# Altium footprint library Connector_Wire.PcbLib: 290 footprints (part 14 of 19)
Each footprint in its own frame and in the unit in brackets; x right, y up, seen from the top. Pads: shape width x height; smd on the part's side, far side on the other; paste and mask are expansions set on the pad; w line width, h text height; cw(c..) or ccw(c..) is an arc to the next point about the centre after c.
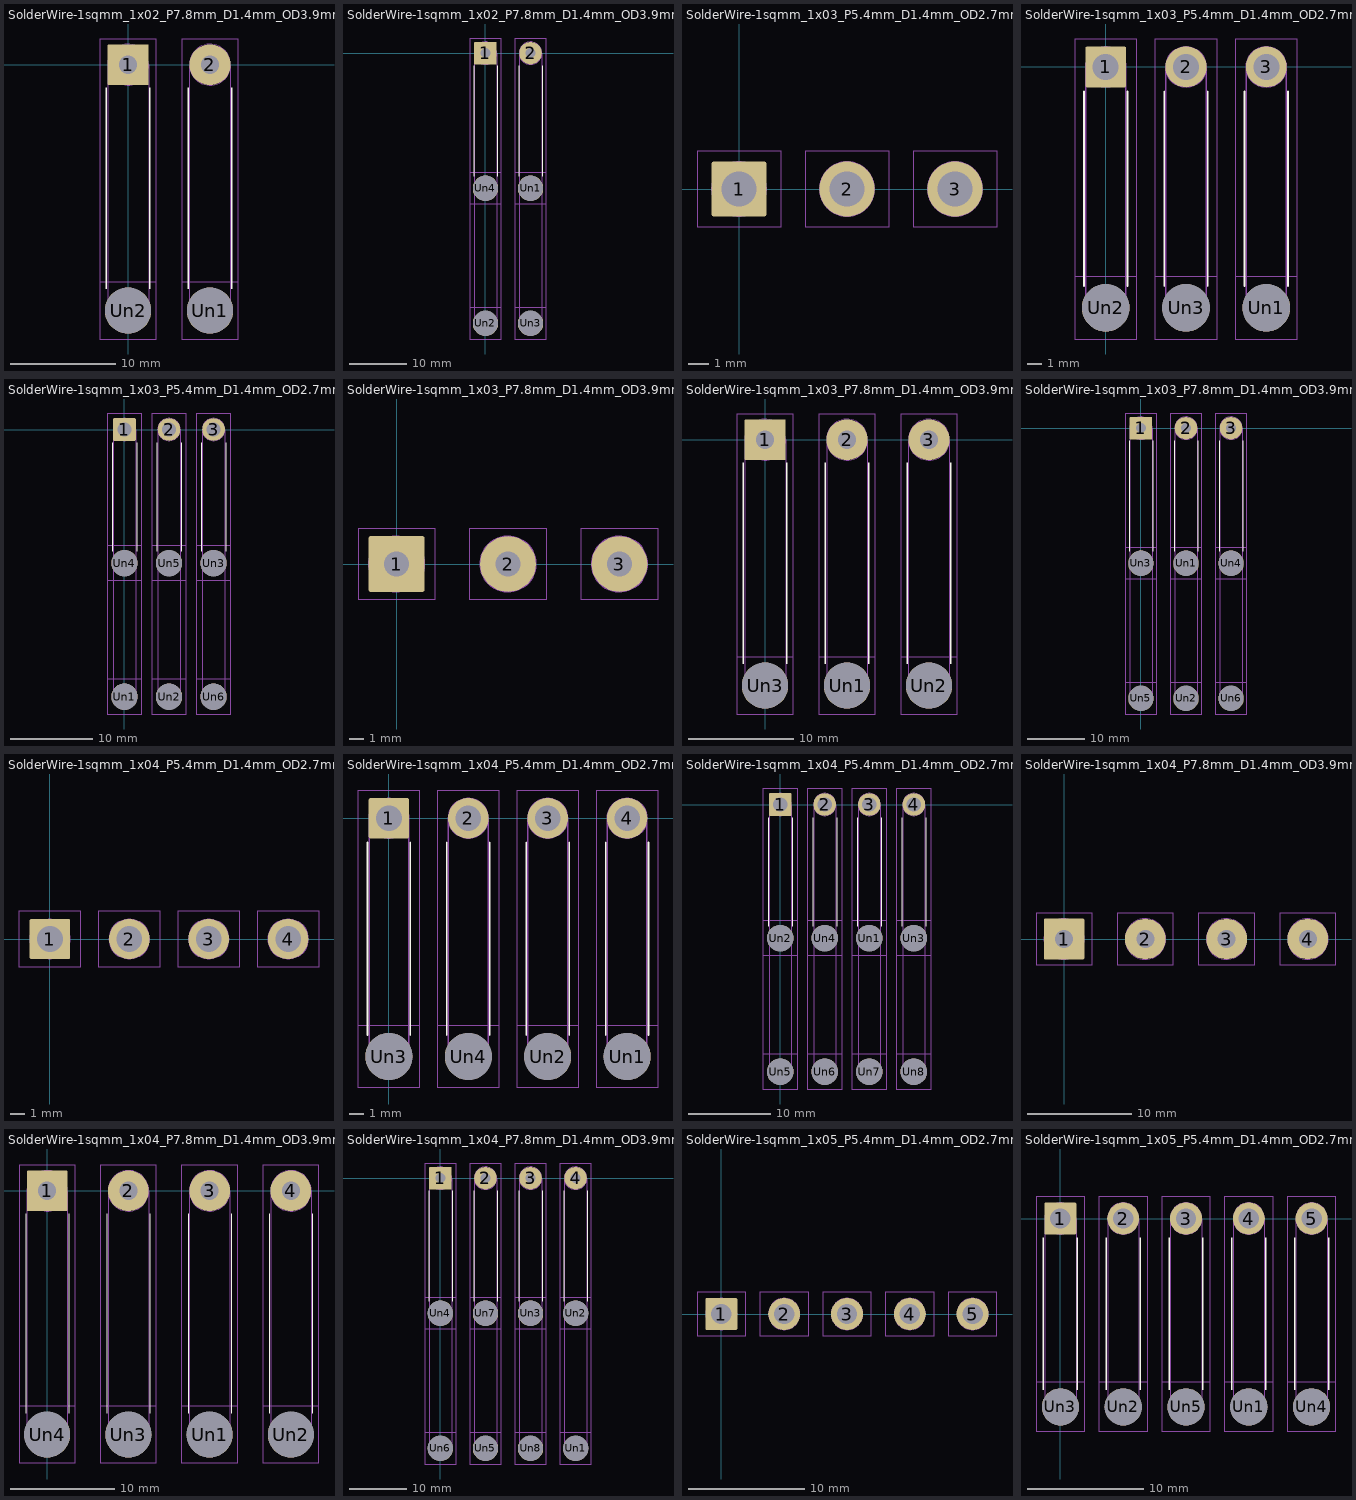
[diagram p13: the footprints below, top view; thin cyan lines are the x and y axes]

## SolderWire-1sqmm_1x02_P7.8mm_D1.4mm_OD3.9mm_Relief [mm]
pads (4):
  rrect6% 3.9x3.9 hole 1.75: 1(0,0)
  round 3.9 hole 1.75: 2(7.8,0)
  round 4.4 hole 4.4: Un1(7.8,-23.4) Un2(0,-23.4)
F.SilkS:
  lines w0.12: -2.06,-21.34 -2.06,-2.21 ; 2.06,-21.34 2.06,-2.21 ; 5.74,-21.34 5.74,-2.21 ; 9.86,-21.34 9.86,-2.21
B.CrtYd:
  lines w0.05: -2.7,-26.1 2.7,-26.1 2.7,-20.7 -2.7,-20.7 -2.7,-26.1 ; 5.1,-26.1 5.1,-20.7 10.5,-20.7 10.5,-26.1 5.1,-26.1
F.CrtYd:
  lines w0.05: -2.7,-26.1 2.7,-26.1 2.7,2.45 -2.7,2.45 -2.7,-26.1 ; 5.1,-26.1 5.1,2.45 10.5,2.45 10.5,-26.1 5.1,-26.1
F.Fab:
  circle w0.1: c0,0 r1.95
  circle w0.1: c0,-23.4 r1.95
  circle w0.1: c7.8,-23.4 r1.95
  circle w0.1: c7.8,0 r1.95
  lines w0.1: -1.95,-23.4 -1.95,0 ; 1.95,-23.4 1.95,0 ; 5.85,-23.4 5.85,0 ; 9.75,-23.4 9.75,0
  text "'.Designator'" at 4.74,-15.747 h1

## SolderWire-1sqmm_1x02_P7.8mm_D1.4mm_OD3.9mm_Relief2x [mm]
pads (6):
  rrect6% 3.9x3.9 hole 1.75: 1(0,0)
  round 3.9 hole 1.75: 2(7.8,0)
  round 4.4 hole 4.4: Un1(7.8,-23.4) Un2(0,-46.8) Un3(7.8,-46.8) Un4(0,-23.4)
F.SilkS:
  lines w0.12: -2.06,-21.34 -2.06,-2.21 ; 2.06,-21.34 2.06,-2.21 ; 5.74,-21.34 5.74,-2.21 ; 9.86,-21.34 9.86,-2.21
B.SilkS:
  lines w0.12: -2.06,-44.74 -2.06,-25.46 ; 2.06,-44.74 2.06,-25.46 ; 5.74,-44.74 5.74,-25.46 ; 9.86,-44.74 9.86,-25.46
B.CrtYd:
  lines w0.05: -2.7,-49.5 2.7,-49.5 2.7,-20.7 -2.7,-20.7 -2.7,-49.5 ; 5.1,-49.5 5.1,-20.7 10.5,-20.7 10.5,-49.5 5.1,-49.5
F.CrtYd:
  lines w0.05: -2.7,-49.5 2.7,-49.5 2.7,-44.1 -2.7,-44.1 -2.7,-49.5 ; -2.7,-26.1 2.7,-26.1 2.7,2.45 -2.7,2.45 -2.7,-26.1 ; 5.1,-49.5 5.1,-44.1 10.5,-44.1 10.5,-49.5 5.1,-49.5 ; 5.1,-26.1 10.5,-26.1 10.5,2.45 5.1,2.45 5.1,-26.1
B.Fab:
  circle w0.1: c0,-46.8 r1.95
  circle w0.1: c0,-23.4 r1.95
  circle w0.1: c7.8,-46.8 r1.95
  circle w0.1: c7.8,-23.4 r1.95
  lines w0.1: -1.95,-46.8 -1.95,-23.4 ; 1.95,-46.8 1.95,-23.4 ; 5.85,-46.8 5.85,-23.4 ; 9.75,-46.8 9.75,-23.4
F.Fab:
  circle w0.1: c0,0 r1.95
  circle w0.1: c7.8,-46.8 r1.95
  circle w0.1: c7.8,-23.4 r1.95
  circle w0.1: c0,-46.8 r1.95
  circle w0.1: c0,-23.4 r1.95
  circle w0.1: c7.8,0 r1.95
  lines w0.1: -1.95,-23.4 -1.95,0 ; 1.95,-23.4 1.95,0 ; 5.85,-23.4 5.85,0 ; 9.75,-23.4 9.75,0
  text "'.Designator'" at 4.74,-15.747 h1

## SolderWire-1sqmm_1x03_P5.4mm_D1.4mm_OD2.7mm [mm]
pads (3):
  rrect9% 2.75x2.75 hole 1.75: 1(0,0)
  round 2.75 hole 1.75: 2(5.4,0) 3(10.8,0)
F.CrtYd:
  lines w0.05: -2.1,-1.88 2.1,-1.88 2.1,1.88 -2.1,1.88 -2.1,-1.88 ; 3.3,-1.88 7.5,-1.88 7.5,1.88 3.3,1.88 3.3,-1.88 ; 8.7,-1.88 8.7,1.88 12.9,1.88 12.9,-1.88 8.7,-1.88
F.Fab:
  circle w0.1: c5.4,0 r1.35
  circle w0.1: c0,0 r1.35
  circle w0.1: c10.8,0 r1.35
  text "'.Designator'" at 5.969,-2.75 h0.68

## SolderWire-1sqmm_1x03_P5.4mm_D1.4mm_OD2.7mm_Relief [mm]
pads (6):
  rrect9% 2.75x2.75 hole 1.75: 1(0,0)
  round 2.75 hole 1.75: 2(5.4,0) 3(10.8,0)
  round 3.2 hole 3.2: Un1(10.8,-16.2) Un2(0,-16.2) Un3(5.4,-16.2)
F.SilkS:
  lines w0.12: -1.46,-14.74 -1.46,-1.635 ; 1.46,-14.74 1.46,-1.635 ; 3.94,-14.74 3.94,-1.635 ; 6.86,-14.74 6.86,-1.635 ; 9.34,-14.74 9.34,-1.635 ; 12.26,-14.74 12.26,-1.635
B.CrtYd:
  lines w0.05: -2.1,-18.3 -2.1,-14.1 2.1,-14.1 2.1,-18.3 -2.1,-18.3 ; 3.3,-18.3 7.5,-18.3 7.5,-14.1 3.3,-14.1 3.3,-18.3 ; 8.7,-18.3 8.7,-14.1 12.9,-14.1 12.9,-18.3 8.7,-18.3
F.CrtYd:
  lines w0.05: -2.1,-18.3 -2.1,1.88 2.1,1.88 2.1,-18.3 -2.1,-18.3 ; 3.3,-18.3 7.5,-18.3 7.5,1.88 3.3,1.88 3.3,-18.3 ; 8.7,-18.3 8.7,1.88 12.9,1.88 12.9,-18.3 8.7,-18.3
F.Fab:
  circle w0.1: c10.8,0 r1.35
  circle w0.1: c0,-16.2 r1.35
  circle w0.1: c5.4,0 r1.35
  circle w0.1: c0,0 r1.35
  circle w0.1: c5.4,-16.2 r1.35
  circle w0.1: c10.8,-16.2 r1.35
  lines w0.1: -1.35,-16.2 -1.35,0 ; 1.35,-16.2 1.35,0 ; 4.05,-16.2 4.05,0 ; 6.75,-16.2 6.75,0 ; 9.45,-16.2 9.45,0 ; 12.15,-16.2 12.15,0
  text "'.Designator'" at 6.24,-12.147 h1

## SolderWire-1sqmm_1x03_P5.4mm_D1.4mm_OD2.7mm_Relief2x [mm]
pads (9):
  rrect9% 2.75x2.75 hole 1.75: 1(0,0)
  round 2.75 hole 1.75: 2(5.4,0) 3(10.8,0)
  round 3.2 hole 3.2: Un1(0,-32.4) Un2(5.4,-32.4) Un3(10.8,-16.2) Un4(0,-16.2) Un5(5.4,-16.2) Un6(10.8,-32.4)
F.SilkS:
  lines w0.12: -1.46,-14.74 -1.46,-1.635 ; 1.46,-14.74 1.46,-1.635 ; 3.94,-14.74 3.94,-1.635 ; 6.86,-14.74 6.86,-1.635 ; 9.34,-14.74 9.34,-1.635 ; 12.26,-14.74 12.26,-1.635
B.SilkS:
  lines w0.12: -1.46,-30.94 -1.46,-17.66 ; 1.46,-30.94 1.46,-17.66 ; 3.94,-30.94 3.94,-17.66 ; 6.86,-30.94 6.86,-17.66 ; 9.34,-30.94 9.34,-17.66 ; 12.26,-30.94 12.26,-17.66
B.CrtYd:
  lines w0.05: -2.1,-34.5 -2.1,-14.1 2.1,-14.1 2.1,-34.5 -2.1,-34.5 ; 3.3,-34.5 7.5,-34.5 7.5,-14.1 3.3,-14.1 3.3,-34.5 ; 8.7,-34.5 12.9,-34.5 12.9,-14.1 8.7,-14.1 8.7,-34.5
F.CrtYd:
  lines w0.05: -2.1,-34.5 2.1,-34.5 2.1,-30.3 -2.1,-30.3 -2.1,-34.5 ; -2.1,-18.3 2.1,-18.3 2.1,1.88 -2.1,1.88 -2.1,-18.3 ; 3.3,-34.5 3.3,-30.3 7.5,-30.3 7.5,-34.5 3.3,-34.5 ; 3.3,-18.3 3.3,1.88 7.5,1.88 7.5,-18.3 3.3,-18.3 ; 8.7,-34.5 12.9,-34.5 12.9,-30.3 8.7,-30.3 8.7,-34.5 ; 8.7,-18.3 8.7,1.88 12.9,1.88 12.9,-18.3 8.7,-18.3
B.Fab:
  circle w0.1: c0,-16.2 r1.35
  circle w0.1: c10.8,-16.2 r1.35
  circle w0.1: c10.8,-32.4 r1.35
  circle w0.1: c5.4,-16.2 r1.35
  circle w0.1: c0,-32.4 r1.35
  circle w0.1: c5.4,-32.4 r1.35
  lines w0.1: -1.35,-32.4 -1.35,-16.2 ; 1.35,-32.4 1.35,-16.2 ; 4.05,-32.4 4.05,-16.2 ; 6.75,-32.4 6.75,-16.2 ; 9.45,-32.4 9.45,-16.2 ; 12.15,-32.4 12.15,-16.2
F.Fab:
  circle w0.1: c10.8,0 r1.35
  circle w0.1: c10.8,-32.4 r1.35
  circle w0.1: c0,-32.4 r1.35
  circle w0.1: c10.8,-16.2 r1.35
  circle w0.1: c0,-16.2 r1.35
  circle w0.1: c5.4,-32.4 r1.35
  circle w0.1: c5.4,0 r1.35
  circle w0.1: c0,0 r1.35
  circle w0.1: c5.4,-16.2 r1.35
  lines w0.1: -1.35,-16.2 -1.35,0 ; 1.35,-16.2 1.35,0 ; 4.05,-16.2 4.05,0 ; 6.75,-16.2 6.75,0 ; 9.45,-16.2 9.45,0 ; 12.15,-16.2 12.15,0
  text "'.Designator'" at 6.24,-12.147 h1

## SolderWire-1sqmm_1x03_P7.8mm_D1.4mm_OD3.9mm [mm]
pads (3):
  rrect6% 3.9x3.9 hole 1.75: 1(0,0)
  round 3.9 hole 1.75: 2(7.8,0) 3(15.6,0)
F.CrtYd:
  lines w0.05: -2.7,-2.45 -2.7,2.45 2.7,2.45 2.7,-2.45 -2.7,-2.45 ; 5.1,-2.45 5.1,2.45 10.5,2.45 10.5,-2.45 5.1,-2.45 ; 12.9,-2.45 12.9,2.45 18.3,2.45 18.3,-2.45 12.9,-2.45
F.Fab:
  circle w0.1: c0,0 r1.95
  circle w0.1: c15.6,0 r1.95
  circle w0.1: c7.8,0 r1.95
  text "'.Designator'" at 3.831,-0.827 h0.98

## SolderWire-1sqmm_1x03_P7.8mm_D1.4mm_OD3.9mm_Relief [mm]
pads (6):
  rrect6% 3.9x3.9 hole 1.75: 1(0,0)
  round 3.9 hole 1.75: 2(7.8,0) 3(15.6,0)
  round 4.4 hole 4.4: Un1(7.8,-23.4) Un2(15.6,-23.4) Un3(0,-23.4)
F.SilkS:
  lines w0.12: -2.06,-21.34 -2.06,-2.21 ; 2.06,-21.34 2.06,-2.21 ; 5.74,-21.34 5.74,-2.21 ; 9.86,-21.34 9.86,-2.21 ; 13.54,-21.34 13.54,-2.21 ; 17.66,-21.34 17.66,-2.21
B.CrtYd:
  lines w0.05: -2.7,-26.1 2.7,-26.1 2.7,-20.7 -2.7,-20.7 -2.7,-26.1 ; 5.1,-26.1 10.5,-26.1 10.5,-20.7 5.1,-20.7 5.1,-26.1 ; 12.9,-26.1 18.3,-26.1 18.3,-20.7 12.9,-20.7 12.9,-26.1
F.CrtYd:
  lines w0.05: -2.7,-26.1 2.7,-26.1 2.7,2.45 -2.7,2.45 -2.7,-26.1 ; 5.1,-26.1 10.5,-26.1 10.5,2.45 5.1,2.45 5.1,-26.1 ; 12.9,-26.1 18.3,-26.1 18.3,2.45 12.9,2.45 12.9,-26.1
F.Fab:
  circle w0.1: c15.6,0 r1.95
  circle w0.1: c0,0 r1.95
  circle w0.1: c15.6,-23.4 r1.95
  circle w0.1: c0,-23.4 r1.95
  circle w0.1: c7.8,-23.4 r1.95
  circle w0.1: c7.8,0 r1.95
  lines w0.1: -1.95,-23.4 -1.95,0 ; 1.95,-23.4 1.95,0 ; 5.85,-23.4 5.85,0 ; 9.75,-23.4 9.75,0 ; 13.65,-23.4 13.65,0 ; 17.55,-23.4 17.55,0
  text "'.Designator'" at 8.64,-15.747 h1

## SolderWire-1sqmm_1x03_P7.8mm_D1.4mm_OD3.9mm_Relief2x [mm]
pads (9):
  rrect6% 3.9x3.9 hole 1.75: 1(0,0)
  round 3.9 hole 1.75: 2(7.8,0) 3(15.6,0)
  round 4.4 hole 4.4: Un1(7.8,-23.4) Un2(7.8,-46.8) Un3(0,-23.4) Un4(15.6,-23.4) Un5(0,-46.8) Un6(15.6,-46.8)
F.SilkS:
  lines w0.12: -2.06,-21.34 -2.06,-2.21 ; 2.06,-21.34 2.06,-2.21 ; 5.74,-21.34 5.74,-2.21 ; 9.86,-21.34 9.86,-2.21 ; 13.54,-21.34 13.54,-2.21 ; 17.66,-21.34 17.66,-2.21
B.SilkS:
  lines w0.12: -2.06,-44.74 -2.06,-25.46 ; 2.06,-44.74 2.06,-25.46 ; 5.74,-44.74 5.74,-25.46 ; 9.86,-44.74 9.86,-25.46 ; 13.54,-44.74 13.54,-25.46 ; 17.66,-44.74 17.66,-25.46
B.CrtYd:
  lines w0.05: -2.7,-49.5 2.7,-49.5 2.7,-20.7 -2.7,-20.7 -2.7,-49.5 ; 5.1,-49.5 10.5,-49.5 10.5,-20.7 5.1,-20.7 5.1,-49.5 ; 12.9,-49.5 18.3,-49.5 18.3,-20.7 12.9,-20.7 12.9,-49.5
F.CrtYd:
  lines w0.05: -2.7,-49.5 2.7,-49.5 2.7,-44.1 -2.7,-44.1 -2.7,-49.5 ; -2.7,-26.1 2.7,-26.1 2.7,2.45 -2.7,2.45 -2.7,-26.1 ; 5.1,-49.5 5.1,-44.1 10.5,-44.1 10.5,-49.5 5.1,-49.5 ; 5.1,-26.1 5.1,2.45 10.5,2.45 10.5,-26.1 5.1,-26.1 ; 12.9,-49.5 18.3,-49.5 18.3,-44.1 12.9,-44.1 12.9,-49.5 ; 12.9,-26.1 12.9,2.45 18.3,2.45 18.3,-26.1 12.9,-26.1
B.Fab:
  circle w0.1: c15.6,-46.8 r1.95
  circle w0.1: c0,-46.8 r1.95
  circle w0.1: c15.6,-23.4 r1.95
  circle w0.1: c0,-23.4 r1.95
  circle w0.1: c7.8,-23.4 r1.95
  circle w0.1: c7.8,-46.8 r1.95
  lines w0.1: -1.95,-46.8 -1.95,-23.4 ; 1.95,-46.8 1.95,-23.4 ; 5.85,-46.8 5.85,-23.4 ; 9.75,-46.8 9.75,-23.4 ; 13.65,-46.8 13.65,-23.4 ; 17.55,-46.8 17.55,-23.4
F.Fab:
  circle w0.1: c7.8,0 r1.95
  circle w0.1: c15.6,0 r1.95
  circle w0.1: c0,0 r1.95
  circle w0.1: c0,-46.8 r1.95
  circle w0.1: c0,-23.4 r1.95
  circle w0.1: c7.8,-46.8 r1.95
  circle w0.1: c15.6,-23.4 r1.95
  circle w0.1: c7.8,-23.4 r1.95
  circle w0.1: c15.6,-46.8 r1.95
  lines w0.1: -1.95,-23.4 -1.95,0 ; 1.95,-23.4 1.95,0 ; 5.85,-23.4 5.85,0 ; 9.75,-23.4 9.75,0 ; 13.65,-23.4 13.65,0 ; 17.55,-23.4 17.55,0
  text "'.Designator'" at 8.64,-15.747 h1

## SolderWire-1sqmm_1x04_P5.4mm_D1.4mm_OD2.7mm [mm]
pads (4):
  rrect9% 2.75x2.75 hole 1.75: 1(0,0)
  round 2.75 hole 1.75: 2(5.4,0) 3(10.8,0) 4(16.2,0)
F.CrtYd:
  lines w0.05: -2.1,-1.88 -2.1,1.88 2.1,1.88 2.1,-1.88 -2.1,-1.88 ; 3.3,-1.88 7.5,-1.88 7.5,1.88 3.3,1.88 3.3,-1.88 ; 8.7,-1.88 8.7,1.88 12.9,1.88 12.9,-1.88 8.7,-1.88 ; 14.1,-1.88 18.3,-1.88 18.3,1.88 14.1,1.88 14.1,-1.88
F.Fab:
  circle w0.1: c0,0 r1.35
  circle w0.1: c5.4,0 r1.35
  circle w0.1: c16.2,0 r1.35
  circle w0.1: c10.8,0 r1.35
  text "'.Designator'" at 8.889,-3.803 h0.94

## SolderWire-1sqmm_1x04_P5.4mm_D1.4mm_OD2.7mm_Relief [mm]
pads (8):
  rrect9% 2.75x2.75 hole 1.75: 1(0,0)
  round 2.75 hole 1.75: 2(5.4,0) 3(10.8,0) 4(16.2,0)
  round 3.2 hole 3.2: Un1(16.2,-16.2) Un2(10.8,-16.2) Un3(0,-16.2) Un4(5.4,-16.2)
F.SilkS:
  lines w0.12: -1.46,-14.74 -1.46,-1.635 ; 1.46,-14.74 1.46,-1.635 ; 3.94,-14.74 3.94,-1.635 ; 6.86,-14.74 6.86,-1.635 ; 9.34,-14.74 9.34,-1.635 ; 12.26,-14.74 12.26,-1.635 ; 14.74,-14.74 14.74,-1.635 ; 17.66,-14.74 17.66,-1.635
B.CrtYd:
  lines w0.05: -2.1,-18.3 2.1,-18.3 2.1,-14.1 -2.1,-14.1 -2.1,-18.3 ; 3.3,-18.3 3.3,-14.1 7.5,-14.1 7.5,-18.3 3.3,-18.3 ; 8.7,-18.3 8.7,-14.1 12.9,-14.1 12.9,-18.3 8.7,-18.3 ; 14.1,-18.3 18.3,-18.3 18.3,-14.1 14.1,-14.1 14.1,-18.3
F.CrtYd:
  lines w0.05: -2.1,-18.3 2.1,-18.3 2.1,1.88 -2.1,1.88 -2.1,-18.3 ; 3.3,-18.3 3.3,1.88 7.5,1.88 7.5,-18.3 3.3,-18.3 ; 8.7,-18.3 8.7,1.88 12.9,1.88 12.9,-18.3 8.7,-18.3 ; 14.1,-18.3 18.3,-18.3 18.3,1.88 14.1,1.88 14.1,-18.3
F.Fab:
  circle w0.1: c0,0 r1.35
  circle w0.1: c10.8,-16.2 r1.35
  circle w0.1: c10.8,0 r1.35
  circle w0.1: c5.4,0 r1.35
  circle w0.1: c16.2,0 r1.35
  circle w0.1: c5.4,-16.2 r1.35
  circle w0.1: c0,-16.2 r1.35
  circle w0.1: c16.2,-16.2 r1.35
  lines w0.1: -1.35,-16.2 -1.35,0 ; 1.35,-16.2 1.35,0 ; 4.05,-16.2 4.05,0 ; 6.75,-16.2 6.75,0 ; 9.45,-16.2 9.45,0 ; 12.15,-16.2 12.15,0 ; 14.85,-16.2 14.85,0 ; 17.55,-16.2 17.55,0
  text "'.Designator'" at 8.94,-12.147 h1

## SolderWire-1sqmm_1x04_P5.4mm_D1.4mm_OD2.7mm_Relief2x [mm]
pads (12):
  rrect9% 2.75x2.75 hole 1.75: 1(0,0)
  round 2.75 hole 1.75: 2(5.4,0) 3(10.8,0) 4(16.2,0)
  round 3.2 hole 3.2: Un1(10.8,-16.2) Un2(0,-16.2) Un3(16.2,-16.2) Un4(5.4,-16.2) Un5(0,-32.4) Un6(5.4,-32.4) Un7(10.8,-32.4) Un8(16.2,-32.4)
F.SilkS:
  lines w0.12: -1.46,-14.74 -1.46,-1.635 ; 1.46,-14.74 1.46,-1.635 ; 3.94,-14.74 3.94,-1.635 ; 6.86,-14.74 6.86,-1.635 ; 9.34,-14.74 9.34,-1.635 ; 12.26,-14.74 12.26,-1.635 ; 14.74,-14.74 14.74,-1.635 ; 17.66,-14.74 17.66,-1.635
B.SilkS:
  lines w0.12: -1.46,-30.94 -1.46,-17.66 ; 1.46,-30.94 1.46,-17.66 ; 3.94,-30.94 3.94,-17.66 ; 6.86,-30.94 6.86,-17.66 ; 9.34,-30.94 9.34,-17.66 ; 12.26,-30.94 12.26,-17.66 ; 14.74,-30.94 14.74,-17.66 ; 17.66,-30.94 17.66,-17.66
B.CrtYd:
  lines w0.05: -2.1,-34.5 2.1,-34.5 2.1,-14.1 -2.1,-14.1 -2.1,-34.5 ; 3.3,-34.5 3.3,-14.1 7.5,-14.1 7.5,-34.5 3.3,-34.5 ; 8.7,-34.5 8.7,-14.1 12.9,-14.1 12.9,-34.5 8.7,-34.5 ; 14.1,-34.5 14.1,-14.1 18.3,-14.1 18.3,-34.5 14.1,-34.5
F.CrtYd:
  lines w0.05: -2.1,-34.5 2.1,-34.5 2.1,-30.3 -2.1,-30.3 -2.1,-34.5 ; -2.1,-18.3 2.1,-18.3 2.1,1.88 -2.1,1.88 -2.1,-18.3 ; 3.3,-34.5 3.3,-30.3 7.5,-30.3 7.5,-34.5 3.3,-34.5 ; 3.3,-18.3 3.3,1.88 7.5,1.88 7.5,-18.3 3.3,-18.3 ; 8.7,-34.5 12.9,-34.5 12.9,-30.3 8.7,-30.3 8.7,-34.5 ; 8.7,-18.3 12.9,-18.3 12.9,1.88 8.7,1.88 8.7,-18.3 ; 14.1,-34.5 18.3,-34.5 18.3,-30.3 14.1,-30.3 14.1,-34.5 ; 14.1,-18.3 14.1,1.88 18.3,1.88 18.3,-18.3 14.1,-18.3
B.Fab:
  circle w0.1: c10.8,-16.2 r1.35
  circle w0.1: c10.8,-32.4 r1.35
  circle w0.1: c16.2,-32.4 r1.35
  circle w0.1: c5.4,-16.2 r1.35
  circle w0.1: c0,-16.2 r1.35
  circle w0.1: c5.4,-32.4 r1.35
  circle w0.1: c16.2,-16.2 r1.35
  circle w0.1: c0,-32.4 r1.35
  lines w0.1: -1.35,-32.4 -1.35,-16.2 ; 1.35,-32.4 1.35,-16.2 ; 4.05,-32.4 4.05,-16.2 ; 6.75,-32.4 6.75,-16.2 ; 9.45,-32.4 9.45,-16.2 ; 12.15,-32.4 12.15,-16.2 ; 14.85,-32.4 14.85,-16.2 ; 17.55,-32.4 17.55,-16.2
F.Fab:
  circle w0.1: c5.4,-32.4 r1.35
  circle w0.1: c5.4,-16.2 r1.35
  circle w0.1: c10.8,-32.4 r1.35
  circle w0.1: c0,-32.4 r1.35
  circle w0.1: c10.8,0 r1.35
  circle w0.1: c16.2,0 r1.35
  circle w0.1: c0,0 r1.35
  circle w0.1: c16.2,-32.4 r1.35
  circle w0.1: c5.4,0 r1.35
  circle w0.1: c10.8,-16.2 r1.35
  circle w0.1: c0,-16.2 r1.35
  circle w0.1: c16.2,-16.2 r1.35
  lines w0.1: -1.35,-16.2 -1.35,0 ; 1.35,-16.2 1.35,0 ; 4.05,-16.2 4.05,0 ; 6.75,-16.2 6.75,0 ; 9.45,-16.2 9.45,0 ; 12.15,-16.2 12.15,0 ; 14.85,-16.2 14.85,0 ; 17.55,-16.2 17.55,0
  text "'.Designator'" at 8.94,-12.147 h1

## SolderWire-1sqmm_1x04_P7.8mm_D1.4mm_OD3.9mm [mm]
pads (4):
  rrect6% 3.9x3.9 hole 1.75: 1(0,0)
  round 3.9 hole 1.75: 2(7.8,0) 3(15.6,0) 4(23.4,0)
F.CrtYd:
  lines w0.05: -2.7,-2.45 -2.7,2.45 2.7,2.45 2.7,-2.45 -2.7,-2.45 ; 5.1,-2.45 5.1,2.45 10.5,2.45 10.5,-2.45 5.1,-2.45 ; 12.9,-2.45 18.3,-2.45 18.3,2.45 12.9,2.45 12.9,-2.45 ; 20.7,-2.45 20.7,2.45 26.1,2.45 26.1,-2.45 20.7,-2.45
F.Fab:
  circle w0.1: c0,0 r1.95
  circle w0.1: c23.4,0 r1.95
  circle w0.1: c7.8,0 r1.95
  circle w0.1: c15.6,0 r1.95
  text "'.Designator'" at 12.54,-4.047 h1

## SolderWire-1sqmm_1x04_P7.8mm_D1.4mm_OD3.9mm_Relief [mm]
pads (8):
  rrect6% 3.9x3.9 hole 1.75: 1(0,0)
  round 3.9 hole 1.75: 2(7.8,0) 3(15.6,0) 4(23.4,0)
  round 4.4 hole 4.4: Un1(15.6,-23.4) Un2(23.4,-23.4) Un3(7.8,-23.4) Un4(0,-23.4)
F.SilkS:
  lines w0.12: -2.06,-21.34 -2.06,-2.21 ; 2.06,-21.34 2.06,-2.21 ; 5.74,-21.34 5.74,-2.21 ; 9.86,-21.34 9.86,-2.21 ; 13.54,-21.34 13.54,-2.21 ; 17.66,-21.34 17.66,-2.21 ; 21.34,-21.34 21.34,-2.21 ; 25.46,-21.34 25.46,-2.21
B.CrtYd:
  lines w0.05: -2.7,-26.1 -2.7,-20.7 2.7,-20.7 2.7,-26.1 -2.7,-26.1 ; 5.1,-26.1 10.5,-26.1 10.5,-20.7 5.1,-20.7 5.1,-26.1 ; 12.9,-26.1 12.9,-20.7 18.3,-20.7 18.3,-26.1 12.9,-26.1 ; 20.7,-26.1 26.1,-26.1 26.1,-20.7 20.7,-20.7 20.7,-26.1
F.CrtYd:
  lines w0.05: -2.7,-26.1 -2.7,2.45 2.7,2.45 2.7,-26.1 -2.7,-26.1 ; 5.1,-26.1 5.1,2.45 10.5,2.45 10.5,-26.1 5.1,-26.1 ; 12.9,-26.1 18.3,-26.1 18.3,2.45 12.9,2.45 12.9,-26.1 ; 20.7,-26.1 26.1,-26.1 26.1,2.45 20.7,2.45 20.7,-26.1
F.Fab:
  circle w0.1: c7.8,-23.4 r1.95
  circle w0.1: c0,0 r1.95
  circle w0.1: c23.4,0 r1.95
  circle w0.1: c15.6,0 r1.95
  circle w0.1: c15.6,-23.4 r1.95
  circle w0.1: c0,-23.4 r1.95
  circle w0.1: c23.4,-23.4 r1.95
  circle w0.1: c7.8,0 r1.95
  lines w0.1: -1.95,-23.4 -1.95,0 ; 1.95,-23.4 1.95,0 ; 5.85,-23.4 5.85,0 ; 9.75,-23.4 9.75,0 ; 13.65,-23.4 13.65,0 ; 17.55,-23.4 17.55,0 ; 21.45,-23.4 21.45,0 ; 25.35,-23.4 25.35,0
  text "'.Designator'" at 12.54,-15.747 h1

## SolderWire-1sqmm_1x04_P7.8mm_D1.4mm_OD3.9mm_Relief2x [mm]
pads (12):
  rrect6% 3.9x3.9 hole 1.75: 1(0,0)
  round 3.9 hole 1.75: 2(7.8,0) 3(15.6,0) 4(23.4,0)
  round 4.4 hole 4.4: Un1(23.4,-46.8) Un2(23.4,-23.4) Un3(15.6,-23.4) Un4(0,-23.4) Un5(7.8,-46.8) Un6(0,-46.8) Un7(7.8,-23.4) Un8(15.6,-46.8)
F.SilkS:
  lines w0.12: -2.06,-21.34 -2.06,-2.21 ; 2.06,-21.34 2.06,-2.21 ; 5.74,-21.34 5.74,-2.21 ; 9.86,-21.34 9.86,-2.21 ; 13.54,-21.34 13.54,-2.21 ; 17.66,-21.34 17.66,-2.21 ; 21.34,-21.34 21.34,-2.21 ; 25.46,-21.34 25.46,-2.21
B.SilkS:
  lines w0.12: -2.06,-44.74 -2.06,-25.46 ; 2.06,-44.74 2.06,-25.46 ; 5.74,-44.74 5.74,-25.46 ; 9.86,-44.74 9.86,-25.46 ; 13.54,-44.74 13.54,-25.46 ; 17.66,-44.74 17.66,-25.46 ; 21.34,-44.74 21.34,-25.46 ; 25.46,-44.74 25.46,-25.46
B.CrtYd:
  lines w0.05: -2.7,-49.5 -2.7,-20.7 2.7,-20.7 2.7,-49.5 -2.7,-49.5 ; 5.1,-49.5 10.5,-49.5 10.5,-20.7 5.1,-20.7 5.1,-49.5 ; 12.9,-49.5 18.3,-49.5 18.3,-20.7 12.9,-20.7 12.9,-49.5 ; 20.7,-49.5 20.7,-20.7 26.1,-20.7 26.1,-49.5 20.7,-49.5
F.CrtYd:
  lines w0.05: -2.7,-49.5 2.7,-49.5 2.7,-44.1 -2.7,-44.1 -2.7,-49.5 ; -2.7,-26.1 -2.7,2.45 2.7,2.45 2.7,-26.1 -2.7,-26.1 ; 5.1,-49.5 10.5,-49.5 10.5,-44.1 5.1,-44.1 5.1,-49.5 ; 5.1,-26.1 5.1,2.45 10.5,2.45 10.5,-26.1 5.1,-26.1 ; 12.9,-49.5 12.9,-44.1 18.3,-44.1 18.3,-49.5 12.9,-49.5 ; 12.9,-26.1 18.3,-26.1 18.3,2.45 12.9,2.45 12.9,-26.1 ; 20.7,-49.5 26.1,-49.5 26.1,-44.1 20.7,-44.1 20.7,-49.5 ; 20.7,-26.1 20.7,2.45 26.1,2.45 26.1,-26.1 20.7,-26.1
B.Fab:
  circle w0.1: c15.6,-23.4 r1.95
  circle w0.1: c0,-23.4 r1.95
  circle w0.1: c7.8,-46.8 r1.95
  circle w0.1: c0,-46.8 r1.95
  circle w0.1: c23.4,-23.4 r1.95
  circle w0.1: c7.8,-23.4 r1.95
  circle w0.1: c23.4,-46.8 r1.95
  circle w0.1: c15.6,-46.8 r1.95
  lines w0.1: -1.95,-46.8 -1.95,-23.4 ; 1.95,-46.8 1.95,-23.4 ; 5.85,-46.8 5.85,-23.4 ; 9.75,-46.8 9.75,-23.4 ; 13.65,-46.8 13.65,-23.4 ; 17.55,-46.8 17.55,-23.4 ; 21.45,-46.8 21.45,-23.4 ; 25.35,-46.8 25.35,-23.4
F.Fab:
  circle w0.1: c15.6,0 r1.95
  circle w0.1: c7.8,-46.8 r1.95
  circle w0.1: c0,0 r1.95
  circle w0.1: c23.4,0 r1.95
  circle w0.1: c7.8,-23.4 r1.95
  circle w0.1: c23.4,-23.4 r1.95
  circle w0.1: c15.6,-46.8 r1.95
  circle w0.1: c0,-23.4 r1.95
  circle w0.1: c7.8,0 r1.95
  circle w0.1: c23.4,-46.8 r1.95
  circle w0.1: c0,-46.8 r1.95
  circle w0.1: c15.6,-23.4 r1.95
  lines w0.1: -1.95,-23.4 -1.95,0 ; 1.95,-23.4 1.95,0 ; 5.85,-23.4 5.85,0 ; 9.75,-23.4 9.75,0 ; 13.65,-23.4 13.65,0 ; 17.55,-23.4 17.55,0 ; 21.45,-23.4 21.45,0 ; 25.35,-23.4 25.35,0
  text "'.Designator'" at 12.54,-15.747 h1

## SolderWire-1sqmm_1x05_P5.4mm_D1.4mm_OD2.7mm [mm]
pads (5):
  rrect9% 2.75x2.75 hole 1.75: 1(0,0)
  round 2.75 hole 1.75: 2(5.4,0) 3(10.8,0) 4(16.2,0) 5(21.6,0)
F.CrtYd:
  lines w0.05: -2.1,-1.88 2.1,-1.88 2.1,1.88 -2.1,1.88 -2.1,-1.88 ; 3.3,-1.88 3.3,1.88 7.5,1.88 7.5,-1.88 3.3,-1.88 ; 8.7,-1.88 8.7,1.88 12.9,1.88 12.9,-1.88 8.7,-1.88 ; 14.1,-1.88 18.3,-1.88 18.3,1.88 14.1,1.88 14.1,-1.88 ; 19.5,-1.88 23.7,-1.88 23.7,1.88 19.5,1.88 19.5,-1.88
F.Fab:
  circle w0.1: c10.8,0 r1.35
  circle w0.1: c5.4,0 r1.35
  circle w0.1: c16.2,0 r1.35
  circle w0.1: c0,0 r1.35
  circle w0.1: c21.6,0 r1.35
  text "'.Designator'" at 11.369,-2.75 h0.68

## SolderWire-1sqmm_1x05_P5.4mm_D1.4mm_OD2.7mm_Relief [mm]
pads (10):
  rrect9% 2.75x2.75 hole 1.75: 1(0,0)
  round 2.75 hole 1.75: 2(5.4,0) 3(10.8,0) 4(16.2,0) 5(21.6,0)
  round 3.2 hole 3.2: Un1(16.2,-16.2) Un2(5.4,-16.2) Un3(0,-16.2) Un4(21.6,-16.2) Un5(10.8,-16.2)
F.SilkS:
  lines w0.12: -1.46,-14.74 -1.46,-1.635 ; 1.46,-14.74 1.46,-1.635 ; 3.94,-14.74 3.94,-1.635 ; 6.86,-14.74 6.86,-1.635 ; 9.34,-14.74 9.34,-1.635 ; 12.26,-14.74 12.26,-1.635 ; 14.74,-14.74 14.74,-1.635 ; 17.66,-14.74 17.66,-1.635 ; 20.14,-14.74 20.14,-1.635 ; 23.06,-14.74 23.06,-1.635
B.CrtYd:
  lines w0.05: -2.1,-18.3 2.1,-18.3 2.1,-14.1 -2.1,-14.1 -2.1,-18.3 ; 3.3,-18.3 7.5,-18.3 7.5,-14.1 3.3,-14.1 3.3,-18.3 ; 8.7,-18.3 8.7,-14.1 12.9,-14.1 12.9,-18.3 8.7,-18.3 ; 14.1,-18.3 18.3,-18.3 18.3,-14.1 14.1,-14.1 14.1,-18.3 ; 19.5,-18.3 23.7,-18.3 23.7,-14.1 19.5,-14.1 19.5,-18.3
F.CrtYd:
  lines w0.05: -2.1,-18.3 -2.1,1.88 2.1,1.88 2.1,-18.3 -2.1,-18.3 ; 3.3,-18.3 3.3,1.88 7.5,1.88 7.5,-18.3 3.3,-18.3 ; 8.7,-18.3 12.9,-18.3 12.9,1.88 8.7,1.88 8.7,-18.3 ; 14.1,-18.3 14.1,1.88 18.3,1.88 18.3,-18.3 14.1,-18.3 ; 19.5,-18.3 19.5,1.88 23.7,1.88 23.7,-18.3 19.5,-18.3
F.Fab:
  circle w0.1: c21.6,0 r1.35
  circle w0.1: c5.4,-16.2 r1.35
  circle w0.1: c10.8,0 r1.35
  circle w0.1: c16.2,0 r1.35
  circle w0.1: c21.6,-16.2 r1.35
  circle w0.1: c16.2,-16.2 r1.35
  circle w0.1: c0,-16.2 r1.35
  circle w0.1: c10.8,-16.2 r1.35
  circle w0.1: c0,0 r1.35
  circle w0.1: c5.4,0 r1.35
  lines w0.1: -1.35,-16.2 -1.35,0 ; 1.35,-16.2 1.35,0 ; 4.05,-16.2 4.05,0 ; 6.75,-16.2 6.75,0 ; 9.45,-16.2 9.45,0 ; 12.15,-16.2 12.15,0 ; 14.85,-16.2 14.85,0 ; 17.55,-16.2 17.55,0 ; 20.25,-16.2 20.25,0 ; 22.95,-16.2 22.95,0
  text "'.Designator'" at 11.64,-12.147 h1